# EAGLE library part ADG1407 (library adg1407)
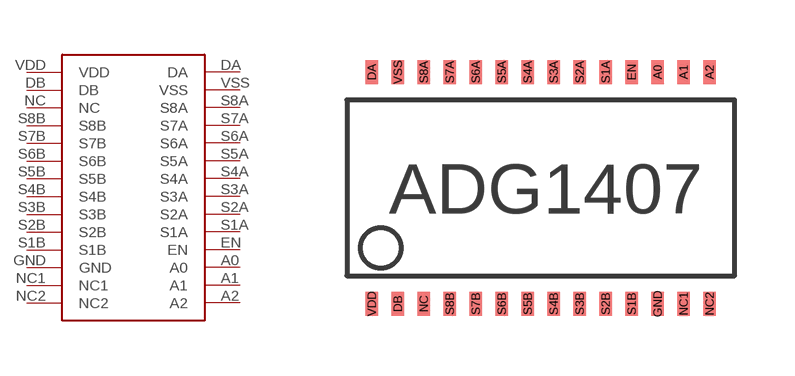
[diagram p0: symbol with the pads of ADG1407; footprint ADG1407]

Designator prefix -

## ADG1407  [ADG1407]
A0  A0
A1  A1
A2  A2
DA  DA
DB  DB
EN  EN
GND  GND
NC  NC
NC1  NC1
NC2  NC2
S1A  S1A
S1B  S1B
S2A  S2A
S2B  S2B
S3A  S3A
S3B  S3B
S4A  S4A
S4B  S4B
S5A  S5A
S5B  S5B
S6A  S6A
S6B  S6B
S7A  S7A
S7B  S7B
S8A  S8A
S8B  S8B
VDD  VDD
VSS  VSS

## Footprint ADG1407 (pad centres in mm)
smd 0.305 x 0.61: A0 2.925,2.9; A1 3.575,2.9; A2 4.225,2.9; DA -4.225,2.9; DB -3.575,-2.9; EN 2.275,2.9; GND 2.925,-2.9; NC -2.925,-2.9; NC1 3.575,-2.9; NC2 4.225,-2.9; S1A 1.625,2.9; S1B 2.275,-2.9; S2A 0.975,2.9; S2B 1.625,-2.9; S3A 0.325,2.9; S3B 0.975,-2.9; S4A -0.325,2.9; S4B 0.325,-2.9; S5A -0.975,2.9; S5B -0.325,-2.9; S6A -1.625,2.9; S6B -0.975,-2.9; S7A -2.275,2.9; S7B -1.625,-2.9; S8A -2.925,2.9; S8B -2.275,-2.9; VDD -4.225,-2.9; VSS -3.575,2.9